# Altium schematic symbol library Fuse.SchLib: 1 symbol
Pins are listed as number, name and electrical type; pins without a type are passive.

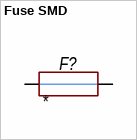
[diagram p0: symbol Fuse SMD]

## Fuse SMD
designator F?
Model: *; Manufcacture: *; HelpURL: *; Case: *; Value: *
footprint KLS5-269-010
footprint TE5/Holders3.0
footprint TR5/Holders3.0
footprint smd:0603
footprint smd:0805
footprint smd:1206
pins: 1, 2